# Altium schematic symbol library SCH - PASSIVES - CAPACITOR - 4Pin.SCHLIB: 1 symbol
Pins are listed as number, name and electrical type; pins without a type are passive.

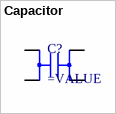
[diagram p0: symbol Capacitor]

## Capacitor
designator C?
SMT Capacitor
pins: 1, 2, 3, 4